# Altium footprint library mainboard.PcbLib: 70 footprints (part 2 of 5)
Each footprint in its own frame and in the unit in brackets; x right, y up, seen from the top. Pads: shape width x height; smd on the part's side, far side on the other; paste and mask are expansions set on the pad; w line width, h text height; cw(c..) or ccw(c..) is an arc to the next point about the centre after c.
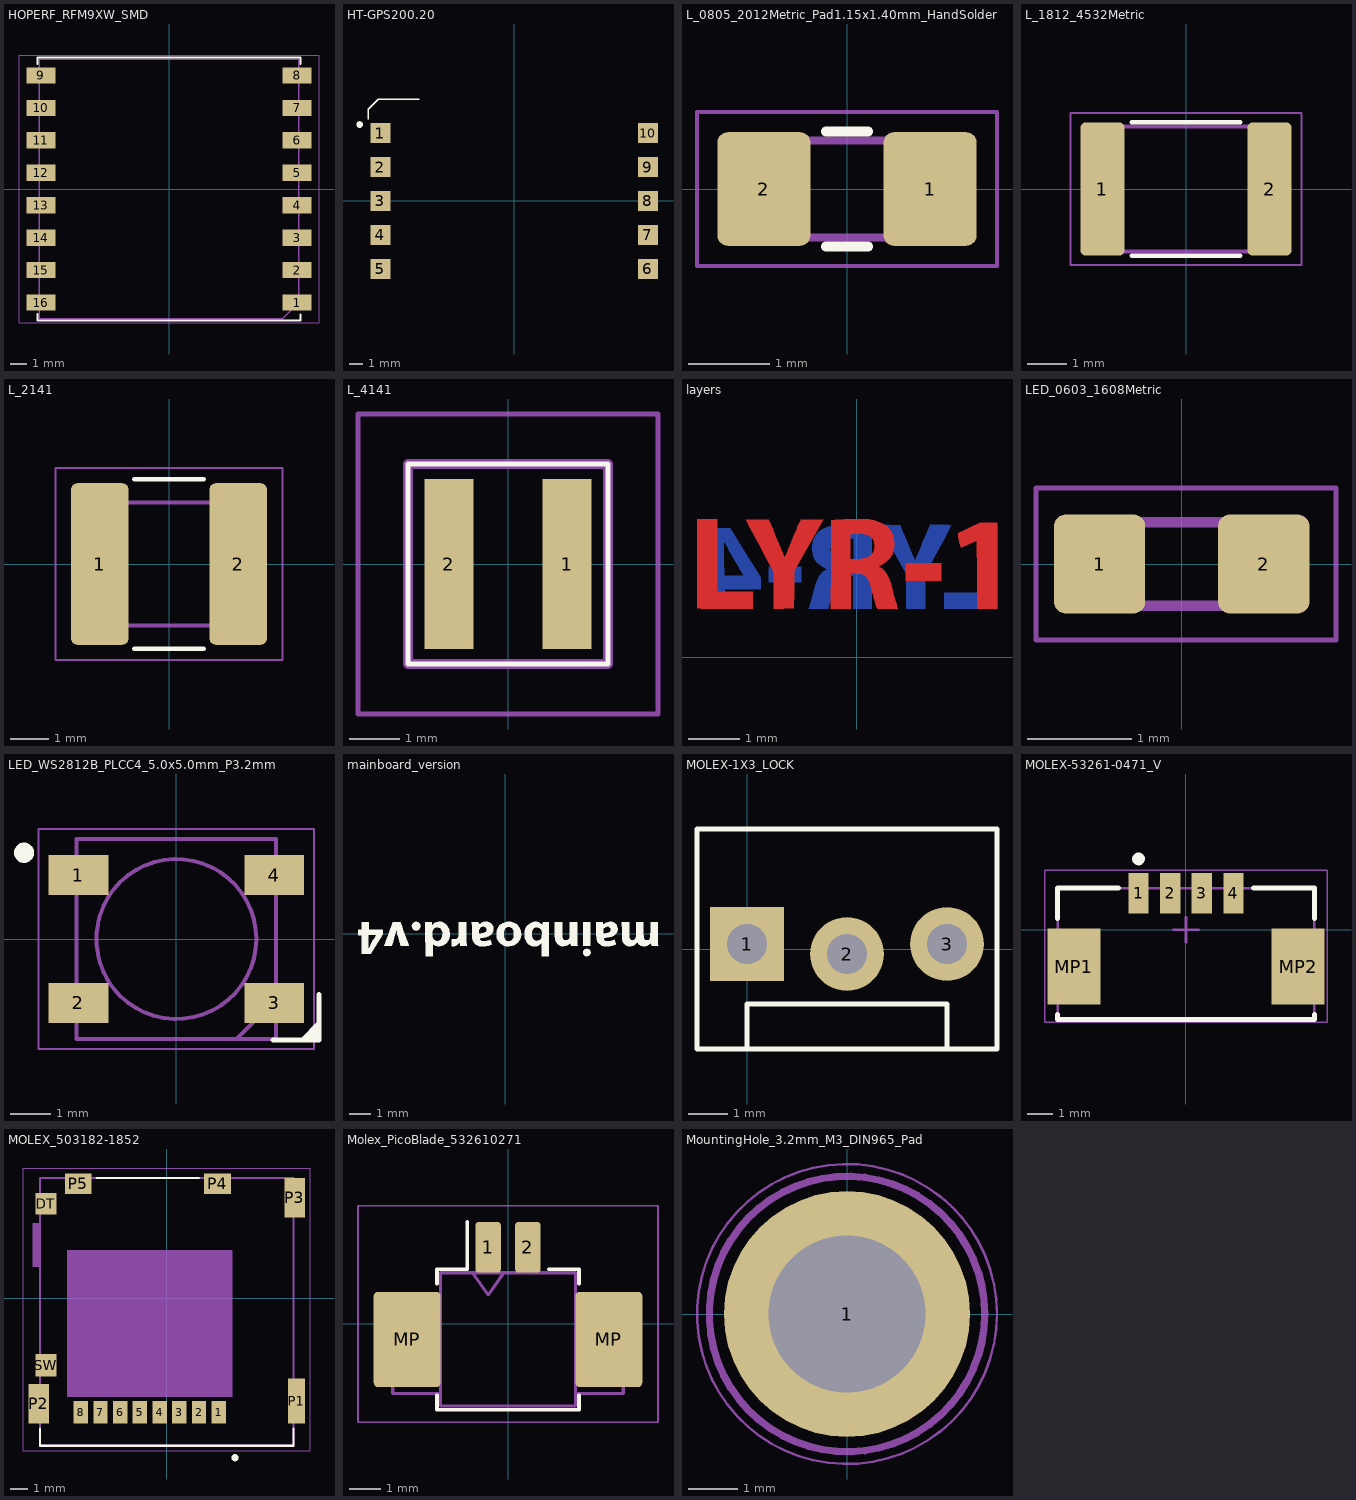
[diagram p1: the footprints below, top view; thin cyan lines are the x and y axes]

## HOPERF_RFM9XW_SMD [mm]
pads (16):
  rect 1.8x1 smd mask+0.051: 1(7.9,-7) 2(7.9,-5) 3(7.9,-3) 4(7.9,-1) 5(7.9,1) 6(7.9,3) 7(7.9,5) 8(7.9,7) 9(-7.9,7) 10(-7.9,5) 11(-7.9,3) 12(-7.9,1) 13(-7.9,-1) 14(-7.9,-3) 15(-7.9,-5) 16(-7.9,-7)
Top Overlay:
  lines w0.12: -8.1,-7.7 -8.1,-8.1 8.1,-8.1 8.1,-7.75 ; -8.1,7.7 -8.1,8.1 8.1,8.1 8.1,7.7
Mechanical 3:
  lines w0.05: -9.25,-8.25 -9.25,8.25 9.25,8.25 9.25,-8.25 -9.25,-8.25
Mechanical 5:
  lines w0.1: -8,-8 -8,8 8,8 8,-7 7,-8 -8,-8
  text "U15" at 0.379,0.251 h0.89

## HT-GPS200.20 [mm] "HT-GPS200.20 GNSS Module"
pads (10):
  rect 1.5x1.5 smd: 1(-10,5.08) 2(-10,2.54) 3(-10,0) 4(-10,-2.54) 5(-10,-5.08) 6(10,-5.08) 7(10,-2.54) 8(10,0) 9(10,2.54) 10(10,5.08)
Top Overlay:
  circle w0.25: c-11.557,5.715 r0.125
  lines w0.1: -10.922,6.096 -10.922,6.858 -10.16,7.62 -7.112,7.62
3D body "HT-GPS200.20FM_V1.3.step": height 3.1, standoff 0.02, extent -10,-7.075 10,7.425

## L_0805_2012Metric_Pad1.15x1.40mm_HandSolder [mm]
pads (2):
  rrect22% 1.15x1.4 smd mask+0.051: 1(1.025,0) 2(-1.025,0)
Top Overlay:
  lines w0.12: -0.261,-0.71 0.261,-0.71 ; -0.261,0.71 0.261,0.71
Mechanical 3:
  lines w0.05: -1.85,-0.95 1.85,-0.95 1.85,0.95 -1.85,0.95 -1.85,-0.95
Mechanical 5:
  lines w0.1: -1,-0.6 1,-0.6 1,0.6 -1,0.6 -1,-0.6
  text "L1" at 0.177,0.246 h0.89

## L_1812_4532Metric [mm]
pads (2):
  rrect22% 1.125x3.4 smd mask+0.051: 1(-2.137,0) 2(2.137,0)
Top Overlay:
  lines w0.12: -1.386,-1.71 1.386,-1.71 ; -1.386,1.71 1.386,1.71
Mechanical 4:
  lines w0.05: -2.95,-1.95 -2.95,1.95 2.95,1.95 2.95,-1.95 -2.95,-1.95
Mechanical 6:
  lines w0.1: -2.25,-1.6 -2.25,1.6 2.25,1.6 2.25,-1.6 -2.25,-1.6
  text "L3" at -0.203,-0.253 h0.89

## L_2141 [mm]
pads (2):
  rrect22% 1.5x4.2 smd mask+0.051: 1(-1.8,0) 2(1.8,0)
Top Overlay:
  lines w0.12: -0.9,-2.2 0.9,-2.2 ; -0.9,2.2 0.9,2.2
Mechanical 4:
  lines w0.05: -2.95,-2.5 2.95,-2.5 2.95,2.5 -2.95,2.5 -2.95,-2.5
Mechanical 6:
  lines w0.1: -2.25,-1.6 2.25,-1.6 2.25,1.6 -2.25,1.6 -2.25,-1.6
  text "L2" at 0.209,0.249 h0.89

## L_4141 [mm]
pads (2):
  rect 0.98x3.4 smd mask+0.051: 1(1.185,0) 2(-1.185,0)
Top Overlay:
  lines w0.1: -2,-2 -2,2 2,2 2,-2 -2,-2
Mechanical 3:
  lines w0.1: -3,-3 -3,3 3,3 3,-3 -3,-3
Mechanical 5:
  lines w0.2: -2,-2 -2,2 2,2 2,-2 -2,-2
  text "L4" at -0.214,-0.249 h0.89

## layers [mm]
Top Layer:
  region: 1.638,1.486 0.953,1.486 0.953,1.816 1.638,1.816
  region: 2.718,0.94 2.337,0.94 2.334,1.599 2.33,2.258 2.175,2.184 2.112,2.155 2.068,2.135 2.039,2.125 2.023,2.123 2.015,2.129 2.014,2.132 2.002,2.175 1.99,2.226 1.98,2.28 1.971,2.331 1.965,2.372 1.964,2.397 1.965,2.402 1.979,2.41 2.013,2.427 2.061,2.451 2.121,2.48 2.181,2.508 2.388,2.603 2.718,2.603
  region: 0.141,2.671 0.202,2.67 0.25,2.667 0.288,2.662 0.321,2.656 0.343,2.651 0.445,2.617 0.526,2.578 0.592,2.53 0.615,2.507 0.668,2.44 0.704,2.367 0.723,2.281 0.729,2.191 0.729,2.131 0.725,2.087 0.715,2.05 0.699,2.011 0.696,2.004 0.649,1.927 0.585,1.856 0.512,1.801 0.488,1.787 0.428,1.757 0.474,1.729 0.515,1.699 0.55,1.664 0.581,1.62 0.61,1.563 0.639,1.491 0.668,1.4 0.7,1.288 0.703,1.276 0.723,1.201 0.743,1.131 0.76,1.071 0.774,1.025 0.78,1.005 0.792,0.971 0.799,0.949 0.8,0.945 0.788,0.943 0.755,0.942 0.705,0.94 0.643,0.94 0.603,0.94 0.405,0.94 0.386,0.986 0.375,1.016 0.36,1.063 0.343,1.123 0.325,1.189 0.322,1.199 0.297,1.292 0.277,1.364 0.261,1.418 0.247,1.459 0.235,1.489 0.222,1.512 0.209,1.532 0.208,1.534 0.175,1.569 0.137,1.593 0.087,1.609 0.019,1.619 -0.005,1.621 -0.114,1.629 -0.114,0.94 -0.495,0.94 -0.492,1.794 -0.49,2.374 -0.489,2.648 -0.413,2.659 -0.378,2.662 -0.322,2.665 -0.251,2.668 -0.169,2.67 -0.08,2.671 -0.038,2.672 0.062,2.672 hole: -0.035,2.388 -0.077,2.384 -0.082,2.383 -0.114,2.374 -0.114,1.905 0.004,1.905 0.079,1.908 0.142,1.915 0.179,1.924 0.251,1.96 0.303,2.012 0.335,2.078 0.345,2.151 0.337,2.226 0.312,2.285 0.268,2.331 0.225,2.358 0.192,2.369 0.142,2.378 0.082,2.384 0.021,2.388
  region: -1.923,2.664 -1.698,2.661 -1.614,2.464 -1.578,2.381 -1.54,2.289 -1.502,2.198 -1.469,2.118 -1.461,2.098 -1.436,2.039 -1.414,1.99 -1.397,1.956 -1.386,1.94 -1.384,1.939 -1.375,1.956 -1.361,1.989 -1.348,2.023 -1.333,2.062 -1.312,2.115 -1.285,2.18 -1.255,2.253 -1.224,2.329 -1.192,2.405 -1.161,2.478 -1.133,2.543 -1.109,2.597 -1.092,2.636 -1.082,2.656 -1.081,2.658 -1.065,2.661 -1.029,2.663 -0.976,2.664 -0.911,2.665 -0.86,2.664 -0.648,2.661 -1.206,1.673 -1.209,1.309 -1.213,0.946 -1.407,0.943 -1.6,0.939 -1.6,1.648 -1.824,2.066 -1.877,2.165 -1.928,2.26 -1.976,2.35 -2.018,2.429 -2.054,2.496 -2.081,2.546 -2.097,2.575 -2.147,2.668
  region: -2.692,1.27 -2.007,1.27 -2.007,0.94 -2.538,0.94 -2.652,0.94 -2.758,0.941 -2.853,0.941 -2.935,0.943 -3,0.944 -3.048,0.946 -3.074,0.947 -3.078,0.948 -3.079,0.962 -3.08,0.999 -3.082,1.058 -3.083,1.135 -3.084,1.229 -3.085,1.339 -3.085,1.461 -3.086,1.594 -3.086,1.735 -3.086,1.812 -3.086,2.667 -2.692,2.667
Bottom Layer:
  region: -1.067,1.448 -1.702,1.448 -1.702,1.753 -1.067,1.753
  region: 2.718,0.94 1.702,0.94 1.702,1.245 2.349,1.245 2.349,2.565 2.718,2.565
  region: 0.637,2.563 0.843,2.559 0.899,2.426 0.923,2.367 0.954,2.293 0.988,2.21 1.022,2.126 1.041,2.079 1.069,2.012 1.094,1.955 1.114,1.911 1.128,1.883 1.135,1.876 1.143,1.893 1.156,1.926 1.169,1.956 1.181,1.988 1.202,2.039 1.23,2.105 1.261,2.18 1.295,2.261 1.31,2.296 1.425,2.565 1.627,2.565 1.712,2.565 1.774,2.562 1.814,2.558 1.829,2.553 1.829,2.552 1.823,2.539 1.806,2.505 1.78,2.454 1.746,2.387 1.704,2.308 1.657,2.219 1.605,2.122 1.581,2.077 1.333,1.614 1.333,0.94 0.965,0.94 0.965,1.615 0.713,2.061 0.658,2.16 0.606,2.252 0.559,2.336 0.518,2.408 0.485,2.467 0.461,2.51 0.448,2.534 0.446,2.537 0.431,2.566
  region: -0.115,2.568 -0.025,2.566 0.063,2.562 0.142,2.557 0.207,2.551 0.247,2.546 0.292,2.537 0.292,0.94 -0.064,0.94 -0.064,1.575 -0.16,1.575 -0.23,1.571 -0.286,1.559 -0.331,1.535 -0.367,1.497 -0.397,1.441 -0.424,1.365 -0.445,1.289 -0.464,1.218 -0.484,1.144 -0.504,1.078 -0.516,1.038 -0.548,0.94 -0.926,0.94 -0.913,0.975 -0.905,0.998 -0.893,1.041 -0.876,1.099 -0.856,1.168 -0.837,1.237 -0.815,1.314 -0.794,1.385 -0.775,1.447 -0.76,1.494 -0.75,1.518 -0.726,1.561 -0.694,1.606 -0.659,1.646 -0.626,1.674 -0.609,1.683 -0.589,1.692 -0.589,1.704 -0.609,1.72 -0.641,1.739 -0.705,1.783 -0.766,1.843 -0.814,1.912 -0.83,1.941 -0.849,2.003 -0.858,2.076 -0.858,2.078 -0.857,2.159 -0.846,2.234 -0.829,2.29 -0.782,2.371 -0.722,2.436 -0.646,2.487 -0.552,2.525 -0.439,2.552 -0.334,2.564 -0.276,2.568 -0.2,2.569 hole: -0.197,2.3 -0.259,2.295 -0.319,2.287 -0.369,2.276 -0.394,2.266 -0.448,2.223 -0.481,2.17 -0.495,2.101 -0.495,2.076 -0.493,2.027 -0.485,1.992 -0.467,1.96 -0.458,1.946 -0.435,1.918 -0.408,1.897 -0.371,1.878 -0.318,1.858 -0.292,1.85 -0.271,1.847 -0.232,1.844 -0.182,1.843 -0.168,1.843 -0.064,1.841 -0.064,2.286 -0.096,2.294 -0.139,2.299
  region: -2.445,2.502 -2.149,2.025 -1.854,1.549 -1.854,1.321 -2.2,1.318 -2.546,1.314 -2.553,0.94 -2.896,0.94 -2.896,1.321 -3.086,1.321 -3.086,1.587 -2.896,1.587 -2.896,2.056 -2.896,2.502 hole: -2.553,2.222 -2.554,2.21 -2.555,2.176 -2.556,2.124 -2.556,2.056 -2.556,1.976 -2.555,1.905 -2.552,1.587 -2.195,1.587 -2.219,1.629 -2.235,1.654 -2.26,1.696 -2.293,1.75 -2.329,1.81 -2.345,1.835 -2.385,1.904 -2.426,1.977 -2.463,2.045 -2.491,2.102 -2.496,2.111 -2.518,2.159 -2.537,2.196 -2.549,2.218

## LED_0603_1608Metric [mm]
pads (2):
  rrect25% 0.875x0.95 smd mask+0.051: 1(-0.787,0) 2(0.787,0)
Mechanical 4:
  lines w0.05: -1.397,-0.73 -1.397,0.73 1.48,0.73 1.48,-0.73 -1.397,-0.73
Mechanical 6:
  lines w0.1: -0.8,-0.4 0.8,-0.4 0.8,0.4 -0.5,0.4 -0.8,0.1 -0.8,-0.4

## LED_WS2812B_PLCC4_5.0x5.0mm_P3.2mm [mm]
pads (4):
  rect 1.5x1 smd mask+0.051: 1(-2.45,1.6) 2(-2.45,-1.6) 3(2.45,-1.6) 4(2.45,1.6)
Top Overlay:
  circle w0.254: c-3.81,2.159 r0.127
  lines w0.12: 2.42,-2.53 3.57,-2.53 3.57,-1.38 ; 3.15,-2.53 3.57,-2.11 ; 3.29,-2.53 3.56,-2.26 ; 3.44,-2.53 3.56,-2.41
Mechanical 4:
  lines w0.05: -3.45,-2.75 -3.45,2.75 3.45,2.75 3.45,-2.75 -3.45,-2.75
Mechanical 6:
  circle w0.1: c0,0 r2
  lines w0.1: 1.5,-2.5 2.5,-1.5 ; -2.5,-2.5 2.5,-2.5 2.5,2.5 -2.5,2.5 -2.5,-2.5
  text "D1" at 0.216,0.246 h0.89

## LOGO [mm]

## mainboard_version [mm]
Top Overlay:
  drawing of 13 lines, arcs and shapes, not listed

## MOLEX-1X3_LOCK [mil]
pads (3):
  rect 74x74 hole 40 paste-74 mask+2.5: 1(0,5)
  round 74 hole 40 paste-74 mask+2.5: 2(100,-5) 3(200,5)
Top Overlay:
  lines w5: 0,-100 0,-55 200,-55 200,-100 ; 0,-100 -50,-100 -50,120 250,120 250,-100 200,-100 ; 0,-100 200,-100
Mechanical 6:
  region: 211.5,-11.5 188.5,-11.5 188.5,11.5 211.5,11.5
  region: 111.5,-11.5 88.5,-11.5 88.5,11.5 111.5,11.5
  region: 11.5,-11.5 -11.5,-11.5 -11.5,11.5 11.5,11.5

## MOLEX-53261-0471_V [mm] "SMD, 4-Leads, Body 10.15x5.2mm, Pitch 1.25mm"
height 3.4
pads (6):
  rect 0.8x1.6 smd: 1(-1.875,1.45) 2(-0.625,1.45) 3(0.625,1.45) 4(1.875,1.45)
  rect 2.1x3 smd: MP1(-4.425,-1.45) MP2(4.425,-1.45)
Top Overlay:
  circle w0.25: c-1.875,2.8 r0.125
  lines w0.2: -5.075,-3.35 -5.075,-3.55 5.075,-3.55 5.075,-3.35 ; -5.075,0.45 -5.075,1.65 -2.675,1.65 ; 2.675,1.65 5.075,1.65 5.075,0.45
Top 3D Body:
  lines w0.1: -5.075,-3.55 5.075,-3.55 5.075,1.65 -5.075,1.65 -5.075,-3.55
Top Courtyard:
  lines w0.05: -5.575,-3.65 5.575,-3.65 5.575,2.35 -5.575,2.35 -5.575,-3.65
  lines w0.1: -0.5,0 0.5,0 ; 0,-0.5 0,0.5
3D body "532610471.stp": height 3.4, standoff 0, extent -5.075,-3.55 5.075,1.65

## MOLEX_503182-1852 [mm]
pads (15):
  rect 0.8x1.24 smd mask+0.064: 1(2.9,-6.355) 2(1.8,-6.355) 3(0.7,-6.355) 4(-0.4,-6.355) 5(-1.5,-6.355) 6(-2.6,-6.355) 7(-3.7,-6.355) 8(-4.8,-6.355)
  rect 1.16x1.2 smd mask+0.064: DT(-6.74,5.275)
  rect 0.95x2.5 smd mask+0.064: P1(7.245,-5.725)
  rect 1.15x2.2 smd mask+0.064: P2(-7.145,-5.875) P3(7.145,5.605)
  rect 1.5x1.15 smd mask+0.064: P4(2.84,6.4) P5(-4.94,6.4)
  rect 1.16x1.25 smd mask+0.064: SW(-6.74,-3.725)
Top Overlay:
  circle w0.2: c3.81,-8.89 r0.1
  lines w0.127: -7.07,-7.28 -7.07,-8.225 7.07,-8.225 7.07,-7.28 ; -3.9,6.725 1.8,6.725
Mechanical 2:
  region: -7.47,1.775 -7.094,1.775 -7.094,4.189 -7.47,4.189
  region: -5.55,-0.725 3.665,-0.725 3.665,2.686 -5.55,2.686
  region: -5.55,-5.485 3.66,-5.485 3.66,-0.727 -5.55,-0.727
  region: -5.55,-5.485 3.663,-5.485 3.663,-0.728 -5.55,-0.728
  region: -5.55,-5.485 3.662,-5.485 3.662,-0.727 -5.55,-0.727
  lines w0.05: -8,-8.5 -8,7.25 8,7.25 8,-8.5 -8,-8.5
Mechanical 5:
  lines w0.127: -7.07,-8.225 7.07,-8.225 7.07,6.725 -7.07,6.725 -7.07,-8.225

## Molex_PicoBlade_532610271 [mm]
pads (4):
  rrect25% 0.8x1.6 smd: 1(-0.625,2.4) 2(0.625,2.4)
  rrect12% 2.1x3 smd: MP(-3.175,-0.5) MP(3.175,-0.5)
Top Overlay:
  lines w0.12: -2.235,-2.26 -2.235,-2.71 2.235,-2.71 2.235,-2.26 ; -2.235,1.26 -2.235,1.71 -1.285,1.71 -1.285,3.2 ; 1.285,1.71 2.235,1.71 2.235,1.26
Mechanical 4:
  lines w0.05: -4.72,-3.1 -4.72,3.7 4.72,3.7 4.72,-3.1 -4.72,-3.1
Mechanical 6:
  lines w0.1: -2.125,-2.2 -3.625,-2.2 -3.625,-1.6 -3.825,-1.4 -3.825,0.4 -3.625,0.6 -2.125,0.6 ; -1.125,1.6 -0.625,0.893 -0.125,1.6 ; 2.125,-2.2 3.625,-2.2 3.625,-1.6 3.825,-1.4 3.825,0.4 3.625,0.6 2.125,0.6 ; -2.125,-2.6 2.125,-2.6 2.125,1.6 -2.125,1.6 -2.125,-2.6
  text "%R" at -0.393,-2.193 h1

## MountingHole_3.2mm_M3_DIN965_Pad [mm]
pads (1):
  round 5 hole 3.2 paste-5 mask+0.051: 1(0,0)
Mechanical 4:
  circle w0.05: c0,0 r3.05
Mechanical 6:
  text "H2" at 0.053,-0.249 h0.89
Mechanical 7:
  circle w0.15: c0,0 r2.8